# EAGLE library part NT3H2111W0FTTJ (library NT3H2111W0FTTJ)
NXP - NT3H2111W0FTTJ - NTAG I- C PLUS 1K, NFC FORUM TYPE 2 TAG WITH I- C INTERFACE OPTIMIZED FOR ENTRY-LEVEL NFC APPLICATIONS, REEL 13" Q1 NDP, Source: Datasheet <https://www.arrow.com/en/products/nt3h2111w0fttj/nxp-semiconductors?utm_currency=USD&region=nac>
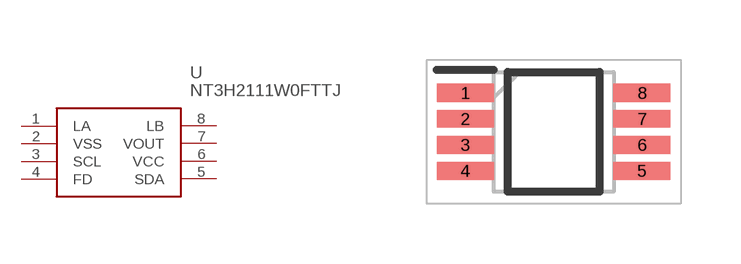
[diagram p0: symbol with the pads of SOP65P490X110-8N; footprint SOP65P490X110-8N]

Designator prefix U

## NT3H2111W0FTTJ (Arrow_Part_Number: NT3H2111W0FTTJ; Arrow_Price-Stock: https://www.arrow.com/en/products/nt3h2111w0fttj/nxp-semiconductors?utm_currency=USD&region=nac; Description: NXP - NT3H2111W0FTTJ - NTAG I- C <I>PLUS</I> 1K, NFC FORUM TYPE 2 TAG WITH I- C INTERFACE OPTIMIZED FOR ENTRY-LEVEL NFC APPLICATIONS, REEL 13" Q1 NDP,; Height: 1.1mm; Manufacturer_Name: NXP; Manufacturer_Part_Number: NT3H2111W0FTTJ)  [SOP65P490X110-8N]
1  LA
2  VSS  pwr
3  SCL  in
4  FD
5  SDA
6  VCC  pwr
7  VOUT  pwr
8  LB

## Footprint SOP65P490X110-8N (pad centres in mm)
TSSOP8
smd 1.425 x 0.45: 1 -2.212,0.975; 2 -2.212,0.325; 3 -2.212,-0.325; 4 -2.212,-0.975; 5 2.212,-0.975; 6 2.212,-0.325; 7 2.212,0.325; 8 2.212,0.975